# EAGLE library part AD7175 (library Analog Devices - AD7997BRUZ-1REEL)
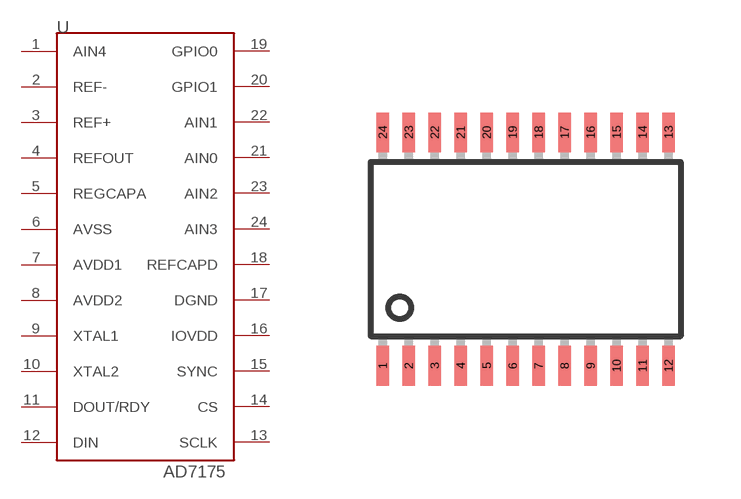
[diagram p1: symbol with the pads of TSSOP24; footprint TSSOP24]

Designator prefix -

## AD7175  [TSSOP24]
1  AIN4
2  REF-
3  REF+
4  REFOUT
5  REGCAPA
6  AVSS
7  AVDD1
8  AVDD2
9  XTAL1
10  XTAL2
11  DOUT/RDY
12  DIN
13  SCLK
14  CS
15  SYNC
16  IOVDD
17  DGND
18  REFCAPD
19  GPIO0
20  GPIO1
21  AIN0
22  AIN1
23  AIN2
24  AIN3

## Footprint TSSOP24 (pad centres in mm)
24-Lead Thin Shrink Small Outline Package TSSOP (RU-24) Source: http://www.analog.com/UploadedFiles/Data_Sheets/39677768AD7714_c.pdf
smd 0.305 x 0.991: 1 -3.575,-2.918; 2 -2.925,-2.918; 3 -2.275,-2.918; 4 -1.625,-2.918; 5 -0.975,-2.918; 6 -0.325,-2.918; 7 0.325,-2.918; 8 0.975,-2.918; 9 1.625,-2.918; 10 2.275,-2.918; 11 2.925,-2.918; 12 3.575,-2.918; 13 3.575,2.918; 14 2.925,2.918; 15 2.275,2.918; 16 1.625,2.918; 17 0.975,2.918; 18 0.325,2.918; 19 -0.325,2.918; 20 -0.975,2.918; 21 -1.625,2.918; 22 -2.275,2.918; 23 -2.925,2.918; 24 -3.575,2.918